# EAGLE library part TPSM84824MOLR (library mccloud)
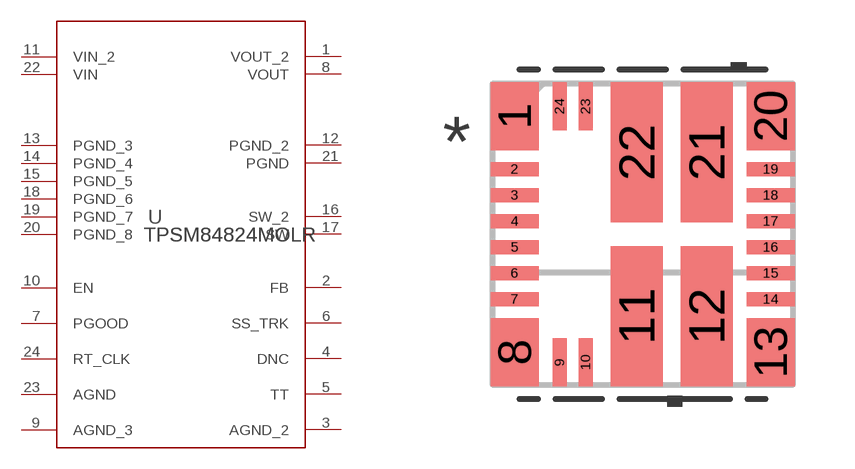
[diagram p5: symbol with the pads of MOL0024A; footprint MOL0024A]

Designator prefix U

## TPSM84824MOLR (MANUFACTURER_PART_NUMBER: TPSM84824MOLR; VENDOR: Texas Instruments)  [MOL0024A]
1  VOUT_2  pwr
2  FB  in
3  AGND_2  pwr
4  DNC  pas
5  TT  pas
6  SS_TRK  pas
7  PGOOD  pas
8  VOUT  pwr
9  AGND_3  pwr
10  EN  in
11  VIN_2  pwr
12  PGND_2  pwr
13  PGND_3  pwr
14  PGND_4  pwr
15  PGND_5  pwr
16  SW_2  out
17  SW  out
18  PGND_6  pwr
19  PGND_7  pwr
20  PGND_8  pwr
21  PGND  pwr
22  VIN  pwr
23  AGND  pwr
24  RT_CLK  in

## Footprint MOL0024A (pad centres in mm)
smd 1.194 x 1.702: 1 -3.2,2.95; 8 -3.2,-2.95; 13 3.2,-2.95; 20 3.2,2.95
smd 1.194 x 0.356: 2 -3.2,1.625; 3 -3.2,0.975; 4 -3.2,0.325; 5 -3.2,-0.325; 6 -3.2,-0.975; 7 -3.2,-1.625; 14 3.2,-1.625; 15 3.2,-0.975; 16 3.2,-0.325; 17 3.2,0.325; 18 3.2,0.975; 19 3.2,1.625
smd 0.356 x 1.194: 9 -2.075,-3.2; 10 -1.425,-3.2; 23 -1.425,3.2; 24 -2.075,3.2
smd 1.295 x 3.505: 11 -0.15,-2.05; 12 1.6,-2.05; 21 1.6,2.05; 22 -0.15,2.05